# Altium schematic symbol library POWER_3PIN_IN_GND_OUT.SchLib: 1 symbol
Pins are listed as number, name and electrical type; pins without a type are passive.

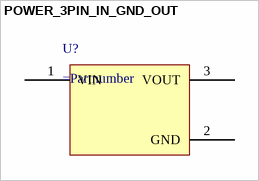
[diagram p0: symbol POWER_3PIN_IN_GND_OUT]

## POWER_3PIN_IN_GND_OUT
designator U?
pins: 1 VIN, 2 GND, 3 VOUT